# Altium footprint library Developement_Kit.PcbLib: 3 footprints
Each footprint in its own frame and in the unit in brackets; x right, y up, seen from the top. Pads: shape width x height; smd on the part's side, far side on the other; paste and mask are expansions set on the pad; w line width, h text height; cw(c..) or ccw(c..) is an arc to the next point about the centre after c.
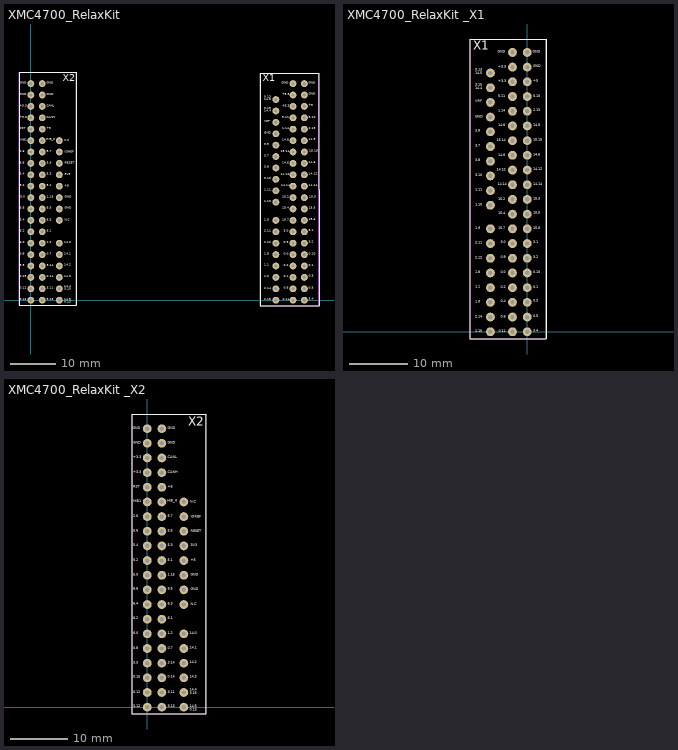
[diagram p0: the footprints below, top view; thin cyan lines are the x and y axes]

## XMC4700_RelaxKit [mil]
pads (112):
  round 60 hole 30: AA_1(250,500) AA_2(250,400) AA_3(250,300) AA_4(250,200) AA_5(250,100) AA_6(250,0) AD8_1(2150,0) AD8_2(2150,100) AD8_3(2150,200) AD8_4(2150,300) AD8_5(2150,400) AD8_6(2150,500) AD8_7(2150,600) AD8_8(2150,700) AD10_1(2150,860) AD10_2(2150,960) AD10_3(2150,1060) AD10_4(2150,1160) AD10_5(2150,1260) AD10_6(2150,1360) AD10_7(2150,1460) AD10_8(2150,1560) AD10_9(2150,1660) AD10_10(2150,1760) AP_1(250,1400) AP_2(250,1300) AP_3(250,1200) AP_4(250,1100) AP_5(250,1000) AP_6(250,900) AP_7(250,800) AP_8(250,700) X1_1(2400,0) X1_2(2300,0) X1_3(2400,100) X1_4(2300,100) X1_5(2400,200) X1_6(2300,200) X1_7(2400,300) X1_8(2300,300) X1_9(2400,400) X1_10(2300,400) X1_11(2400,500) X1_12(2300,500) X1_13(2400,600) X1_14(2300,600) X1_15(2400,700) X1_16(2300,700) X1_17(2400,800) X1_18(2300,800) X1_19(2400,900) X1_20(2300,900) X1_21(2400,1000) X1_22(2300,1000) X1_23(2400,1100) X1_24(2300,1100) X1_25(2400,1200) X1_26(2300,1200) X1_27(2400,1300) X1_28(2300,1300) X1_29(2400,1400) X1_30(2300,1400) X1_31(2400,1500) X1_32(2300,1500) X1_33(2400,1600) X1_34(2300,1600) X1_35(2400,1700) X1_36(2300,1700) X1_37(2400,1800) X1_38(2300,1800) X1_39(2400,1900) X1_40(2300,1900) X2_1(100,0) X2_2(0,0) X2_3(100,100) X2_4(0,100) X2_5(100,200) X2_6(0,200) X2_7(100,300) X2_8(0,300) X2_9(100,400) X2_10(0,400) X2_11(100,500) X2_12(0,500) X2_13(100,600) X2_14(0,600) X2_15(100,700) X2_16(0,700) X2_17(100,800) X2_18(0,800) X2_19(100,900) X2_20(0,900) X2_21(100,1000) X2_22(0,1000) X2_23(100,1100) X2_24(0,1100) X2_25(100,1200) X2_26(0,1200) X2_27(100,1300) X2_28(0,1300) X2_29(100,1400) X2_30(0,1400) X2_31(100,1500) X2_32(0,1500) X2_33(100,1600) X2_34(0,1600) X2_35(100,1700) X2_36(0,1700) X2_37(100,1800) X2_38(0,1800) X2_39(100,1900) X2_40(0,1900)
Top Overlay:
  lines w0.51: -104,-46 400,-46 400,2000 -104,2000 -104,-46 ; 2011.07,-49.15 2528.07,-49.15 2528.07,1990.85 2011.07,1990.85 2011.07,-49.15
  text "GND" at 2047.39,1450.27 h31.5
  text "0.13" at 2047.39,1767.28 h31.5
  text "3.10" at 2047.39,1050.28 h31.5
  text "1.8" at 2047.39,391.89 h31.5
  text "2.15" at 2047.36,-11.43 h31.5
  text "14.5" at 2047.39,1744.28 h31.5
  text "14.4" at 2047.39,1642.87 h31.5
  text "3.15" at 2047.39,1666.22 h31.5
  text "VRF" at 2047.42,1552.92 h31.5
  text "3.9" at 2047.39,1352.16 h31.5
  text "3.7" at 2047.39,1250.9 h31.5
  text "3.8" at 2047.39,1151.9 h31.5
  text "1.11" at 2047.39,952.11 h31.5
  text "1.10" at 2047.39,849.22 h31.5
  text "1.9" at 2047.39,690.2 h31.5
  text "2.11" at 2047.36,591.73 h31.5
  text "2.12" at 2047.36,489.54 h31.5
  text "1.1" at 2047.39,292.54 h31.5
  text "1.0" at 2047.39,191.26 h31.5
  text "2.14" at 2047.36,88.22 h31.5
  text "14.1" at 291,391 h31.5
  text "14.5" at 291,-8.65 h31.5
  text "14.0" at 291,489.35 h31.5
  text "14.2" at 291,292 h31.5
  text "14.3" at 291,192.35 h31.5
  text "3.15" at 291,82.35 h31.5
  text "14.4" at 291,105 h31.5
  text "0.13" at 291,-31.65 h31.5
  text "RESET" at 298,1186.35 h31.5
  text "GND" at 298,791.35 h31.5
  text "N.C" at 295,1386.35 h31.5
  text "IOREF" at 298,1285.35 h31.5
  text "3V3" at 298,1089.35 h31.5
  text "+5" at 298,987 h31.5
  text "GND" at 298,888.35 h31.5
  text "N.C" at 298,688 h31.5
  text "X1" at 2034.07,1919.85 h60
  text "X2" at 279,1921 h60
  text "0.11" at 2208.16,-8.66 h31.5
  text "0.6" at 2219.92,89.34 h31.5
  text "0.4" at 2220.01,194.34 h31.5
  text "0.2" at 2220.12,288.34 h31.5
  text "0.0" at 2219.98,391.4 h31.5
  text "0.9" at 2219.89,491.79 h31.5
  text "3.0" at 2220.01,593.63 h31.5
  text "15.7" at 2203.51,689.99 h31.5
  text "15.4" at 2203.51,793.34 h31.5
  text "15.2" at 2204.51,888.34 h31.5
  text "14.14" at 2198.4,989.97 h31.5
  text "14.12" at 2194.02,1089.26 h31.5
  text "14.6" at 2203.51,1188.34 h31.5
  text "15.14" at 2194.03,1288.2 h31.5
  text "14.8" at 2203.51,1390.34 h31.5
  text "1.14" at 2203.51,1489.99 h31.5
  text "5.11" at 2203.51,1587.34 h31.5
  text "+3.3" at 2203.51,1690.34 h31.5
  text "+3.3" at 2203.51,1790.34 h31.5
  text "GND" at 2200.51,1889.34 h31.5
  text "CANH" at 140,1589.35 h31.5
  text "5.5" at 140,1188.35 h31.5
  text "6.5" at 140,793.35 h31.5
  text "0.7" at 140,389.35 h31.5
  text "3.13" at 140,-8.65 h31.5
  text "GND" at 140,1888.35 h31.5
  text "GND" at 140,1790.35 h31.5
  text "CANL" at 140,1690.35 h31.5
  text "+5" at 140,1490.35 h31.5
  text "HIB_0" at 137,1393.59 h31.5
  text "5.7" at 140,1287.35 h31.5
  text "5.3" at 140,1091.35 h31.5
  text "5.1" at 140,989 h31.5
  text "1.15" at 140,890.35 h31.5
  text "6.3" at 140,690 h31.5
  text "6.1" at 140,592 h31.5
  text "1.2" at 140,491 h31.5
  text "3.14" at 140,288.35 h31.5
  text "0.14" at 140,194.35 h31.5
  text "3.11" at 140,89.35 h31.5
  text "3.12" at -96,-8.65 h31.5
  text "0.12" at -96,89.35 h31.5
  text "0.15" at -96,194.35 h31.5
  text "3.3" at -96,288.35 h31.5
  text "0.8" at -96,389.35 h31.5
  text "6.0" at -96,491.35 h31.5
  text "6.2" at -96,592 h31.5
  text "6.4" at -96,690 h31.5
  text "6.6" at -96,793.35 h31.5
  text "5.0" at -95,888.35 h31.5
  text "5.2" at -96,989 h31.5
  text "5.4" at -96,1091.35 h31.5
  text "5.6" at -96,1188.35 h31.5
  text "2.6" at -96.03,1287.35 h31.5
  text "HIB1" at -96,1390 h31.5
  text "RST" at -96,1490.35 h31.5
  text "+3.3" at -96,1587.35 h31.5
  text "+3.3" at -96,1690.35 h31.5
  text "GND" at -96,1790.35 h31.5
  text "GND" at -99,1889.35 h31.5
  text "15.15" at 2442,1292.35 h31.5
  text "0.5" at 2440,91.35 h31.5
  text "0.3" at 2440,196.35 h31.5
  text "0.1" at 2440,290.35 h31.5
  text "3.2" at 2440,493.35 h31.5
  text "3.1" at 2440,594 h31.5
  text "+5" at 2440,1692.35 h31.5
  text "3.4" at 2440,-6.65 h31.5
  text "15.6" at 2440,692 h31.5
  text "15.3" at 2441,890.35 h31.5
  text "14.14" at 2440,990.65 h31.5
  text "14.12" at 2440,1093 h31.5
  text "14.9" at 2440,1392.35 h31.5
  text "2.13" at 2439.97,1492.35 h31.5
  text "GND" at 2440,1792.35 h31.5
  text "GND" at 2437,1891.35 h31.5
  text "0.10" at 2440,391.35 h31.5
  text "15.5" at 2440,795.35 h31.5
  text "14.6" at 2440,1190.35 h31.5
  text "5.10" at 2440,1589.35 h31.5
Bottom Overlay:
  text "14.5" at 2047.39,1744.28 h31.5
  text "0.13" at 2047.39,1767.28 h31.5
  text "14.4" at 2047.39,1642.87 h31.5
  text "3.15" at 2047.39,1666.22 h31.5
  text "VRF" at 2047.42,1552.92 h31.5
  text "GND" at 2047.39,1450.27 h31.5
  text "1.11" at 2047.39,952.11 h31.5
  text "1.10" at 2047.39,849.22 h31.5
  text "3.9" at 2047.39,1352.16 h31.5
  text "3.8" at 2047.39,1151.9 h31.5
  text "3.7" at 2047.39,1250.9 h31.5
  text "3.10" at 2047.39,1050.28 h31.5
  text "1.9" at 2047.39,690.2 h31.5
  text "2.11" at 2047.36,591.73 h31.5
  text "2.14" at 2047.36,88.22 h31.5
  text "2.15" at 2047.36,-11.43 h31.5
  text "2.12" at 2047.36,489.54 h31.5
  text "1.1" at 2047.39,292.54 h31.5
  text "1.8" at 2047.39,391.89 h31.5
  text "1.0" at 2047.39,191.26 h31.5
  text "3.15" at 291,82.35 h31.5
  text "14.4" at 291,105 h31.5
  text "0.13" at 291,-31.65 h31.5
  text "14.0" at 291,489.35 h31.5
  text "14.2" at 291,292 h31.5
  text "14.1" at 291,391 h31.5
  text "14.3" at 291,192.35 h31.5
  text "14.5" at 291,-8.65 h31.5
  text "RESET" at 298,1186.35 h31.5
  text "GND" at 298,791.35 h31.5
  text "N.C" at 295,1386.35 h31.5
  text "IOREF" at 298,1285.35 h31.5
  text "3V3" at 298,1089.35 h31.5
  text "+5" at 298,987 h31.5
  text "GND" at 298,888.35 h31.5
  text "N.C" at 298,688 h31.5
  text "15.6" at 2440,692 h31.5
  text "15.5" at 2440,795.35 h31.5
  text "15.3" at 2441,890.35 h31.5
  text "14.12" at 2440,1093 h31.5
  text "2.13" at 2439.97,1492.35 h31.5
  text "15.15" at 2442,1292.35 h31.5
  text "+5" at 2440,1692.35 h31.5
  text "14.14" at 2440,990.65 h31.5
  text "14.6" at 2440,1190.35 h31.5
  text "14.9" at 2440,1392.35 h31.5
  text "5.10" at 2440,1589.35 h31.5
  text "GND" at 2440,1792.35 h31.5
  text "GND" at 2437,1891.35 h31.5
  text "3.1" at 2440,594 h31.5
  text "3.2" at 2440,493.35 h31.5
  text "0.10" at 2440,391.35 h31.5
  text "0.1" at 2440,290.35 h31.5
  text "0.5" at 2440,91.35 h31.5
  text "0.3" at 2440,196.35 h31.5
  text "3.4" at 2440,-6.65 h31.5
  text "6.3" at 140.24,689.85 h31.5
  text "6.5" at 140.24,793.2 h31.5
  text "1.15" at 140,890.35 h31.5
  text "5.3" at 140.24,1091.2 h31.5
  text "+5" at 140.24,1490.2 h31.5
  text "5.7" at 140.24,1287.2 h31.5
  text "CANL" at 140.24,1690.2 h31.5
  text "5.1" at 140.24,988.85 h31.5
  text "5.5" at 140.24,1188.2 h31.5
  text "HIB_0" at 137.24,1393.44 h31.5
  text "CANH" at 140.24,1589.2 h31.5
  text "GND" at 140.24,1790.2 h31.5
  text "GND" at 140.24,1888.2 h31.5
  text "6.1" at 140.24,591.85 h31.5
  text "1.2" at 140.24,490.85 h31.5
  text "0.7" at 140.24,389.2 h31.5
  text "3.14" at 140.24,288.2 h31.5
  text "3.11" at 140.24,89.2 h31.5
  text "0.14" at 140.24,194.2 h31.5
  text "3.13" at 140.24,-8.8 h31.5
  text "X2" at 279,1921 h60
  text "6.4" at -96,690 h31.5
  text "6.6" at -96,793.35 h31.5
  text "5.0" at -95,888.35 h31.5
  text "5.4" at -96,1091.35 h31.5
  text "RST" at -96,1490.35 h31.5
  text "2.6" at -96.03,1287.35 h31.5
  text "+3.3" at -96,1690.35 h31.5
  text "5.2" at -96,989 h31.5
  text "5.6" at -96,1188.35 h31.5
  text "HIB1" at -96,1390 h31.5
  text "+3.3" at -96,1587.35 h31.5
  text "GND" at -96,1790.35 h31.5
  text "GND" at -99,1889.35 h31.5
  text "6.2" at -96,592 h31.5
  text "6.0" at -96,491.35 h31.5
  text "0.8" at -96,389.35 h31.5
  text "3.3" at -96,288.35 h31.5
  text "0.12" at -96,89.35 h31.5
  text "0.15" at -96,194.35 h31.5
  text "3.12" at -96,-8.65 h31.5
  text "15.7" at 2203.51,689.99 h31.5
  text "15.4" at 2203.51,793.34 h31.5
  text "15.2" at 2204.51,888.34 h31.5
  text "14.12" at 2194.02,1089.26 h31.5
  text "1.14" at 2203.51,1489.99 h31.5
  text "15.14" at 2194.03,1288.2 h31.5
  text "+3.3" at 2203.51,1690.34 h31.5
  text "14.14" at 2198.18,989.97 h31.5
  text "14.6" at 2203.51,1188.34 h31.5
  text "14.8" at 2203.51,1390.34 h31.5
  text "5.11" at 2203.51,1587.34 h31.5
  text "+3.3" at 2203.51,1790.34 h31.5
  text "GND" at 2200.51,1889.34 h31.5
  text "3.0" at 2220.01,593.63 h31.5
  text "0.9" at 2219.89,491.79 h31.5
  text "0.0" at 2219.98,391.4 h31.5
  text "0.2" at 2220.12,288.34 h31.5
  text "0.6" at 2219.92,89.34 h31.5
  text "0.4" at 2220.01,194.34 h31.5
  text "0.11" at 2208.16,-8.66 h31.5
  text "X1" at 2034.07,1919.85 h60
Mechanical 1:
  lines w0.51: 2011.7,-49.29 2527.19,-49.29 2527.96,-48.52 2527.96,1990.91 2527.58,1991.28 2011.69,1991.28 2011.69,-49.28 ; 2011.69,-49.28 2011.7,-49.29 ; -103.86,-46.13 399.02,-46.13 399.81,-46.92 399.81,1997.33 401.14,1998.66 -103.58,1998.66 -103.58,-45.85 -103.86,-46.13
3D body "c-2-87224-0-l-3d.stp": height 416.43, standoff -116.57, extent -45.59,-40.67 46.41,1943.33
3D body "c-2-87224-0-l-3d.stp": height 416.43, standoff -116.57, extent 48.92,-40.75 140.92,1943.25
3D body "c-2-87224-0-l-3d.stp": height 416.43, standoff -116.57, extent 2254.07,-30.63 2346.07,1953.37
3D body "c-2-87224-0-l-3d.stp": height 416.43, standoff -116.57, extent 2353.06,-30.98 2445.06,1953.02

## XMC4700_RelaxKit _X1 [mil]
pads (58):
  round 60 hole 30: AD8_1(-250,0) AD8_2(-250,100) AD8_3(-250,200) AD8_4(-250,300) AD8_5(-250,400) AD8_6(-250,500) AD8_7(-250,600) AD8_8(-250,700) AD10_1(-250,860) AD10_2(-250,960) AD10_3(-250,1060) AD10_4(-250,1160) AD10_5(-250,1260) AD10_6(-250,1360) AD10_7(-250,1460) AD10_8(-250,1560) AD10_9(-250,1660) AD10_10(-250,1760) X1_1(0,0) X1_2(-100,0) X1_3(0,100) X1_4(-100,100) X1_5(0,200) X1_6(-100,200) X1_7(0,300) X1_8(-100,300) X1_9(0,400) X1_10(-100,400) X1_11(0,500) X1_12(-100,500) X1_13(0,600) X1_14(-100,600) X1_15(0,700) X1_16(-100,700) X1_17(0,800) X1_18(-100,800) X1_19(0,900) X1_20(-100,900) X1_21(0,1000) X1_22(-100,1000) X1_23(0,1100) X1_24(-100,1100) X1_25(0,1200) X1_26(-100,1200) X1_27(0,1300) X1_28(-100,1300) X1_29(0,1400) X1_30(-100,1400) X1_31(0,1500) X1_32(-100,1500) X1_33(0,1600) X1_34(-100,1600) X1_35(0,1700) X1_36(-100,1700) X1_37(0,1800) X1_38(-100,1800) X1_39(0,1900) X1_40(-100,1900)
Top Overlay:
  lines w0.51: -388.93,-49.15 -388.93,1990.85 128.07,1990.85 128.07,-49.15 -388.93,-49.15
  text "5.10" at 40,1589.35 h31.5
  text "14.6" at 40,1190.35 h31.5
  text "15.5" at 40,795.35 h31.5
  text "0.10" at 40,391.35 h31.5
  text "GND" at 37,1891.35 h31.5
  text "GND" at 40,1792.35 h31.5
  text "2.13" at 39.97,1492.35 h31.5
  text "14.9" at 40,1392.35 h31.5
  text "14.12" at 40,1093 h31.5
  text "14.14" at 40,990.65 h31.5
  text "15.3" at 41,890.35 h31.5
  text "15.6" at 40,692 h31.5
  text "3.4" at 40,-6.65 h31.5
  text "+5" at 40,1692.35 h31.5
  text "3.1" at 40,594 h31.5
  text "3.2" at 40,493.35 h31.5
  text "0.1" at 40,290.35 h31.5
  text "0.3" at 40,196.35 h31.5
  text "0.5" at 40,91.35 h31.5
  text "15.15" at 42,1292.35 h31.5
  text "GND" at -199.49,1889.34 h31.5
  text "+3.3" at -196.49,1790.34 h31.5
  text "+3.3" at -196.49,1690.34 h31.5
  text "5.11" at -196.49,1587.34 h31.5
  text "1.14" at -196.49,1489.99 h31.5
  text "14.8" at -196.49,1390.34 h31.5
  text "15.14" at -205.97,1288.2 h31.5
  text "14.6" at -196.49,1188.34 h31.5
  text "14.12" at -205.98,1089.26 h31.5
  text "14.14" at -201.6,989.97 h31.5
  text "15.2" at -195.49,888.34 h31.5
  text "15.4" at -196.49,793.34 h31.5
  text "15.7" at -196.49,689.99 h31.5
  text "3.0" at -179.99,593.63 h31.5
  text "0.9" at -180.11,491.79 h31.5
  text "0.0" at -180.02,391.4 h31.5
  text "0.2" at -179.88,288.34 h31.5
  text "0.4" at -179.99,194.34 h31.5
  text "0.6" at -180.08,89.34 h31.5
  text "0.11" at -191.84,-8.66 h31.5
  text "X1" at -365.93,1919.85 h60
  text "2.14" at -352.64,88.22 h31.5
  text "1.0" at -352.61,191.26 h31.5
  text "1.1" at -352.61,292.54 h31.5
  text "2.12" at -352.64,489.54 h31.5
  text "2.11" at -352.64,591.73 h31.5
  text "1.9" at -352.61,690.2 h31.5
  text "1.10" at -352.61,849.22 h31.5
  text "1.11" at -352.61,952.11 h31.5
  text "3.8" at -352.61,1151.9 h31.5
  text "3.7" at -352.61,1250.9 h31.5
  text "3.9" at -352.61,1352.16 h31.5
  text "VRF" at -352.58,1552.92 h31.5
  text "3.15" at -352.61,1666.22 h31.5
  text "14.4" at -352.61,1642.87 h31.5
  text "14.5" at -352.61,1744.28 h31.5
  text "2.15" at -352.64,-11.43 h31.5
  text "1.8" at -352.61,391.89 h31.5
  text "3.10" at -352.61,1050.28 h31.5
  text "0.13" at -352.61,1767.28 h31.5
  text "GND" at -352.61,1450.27 h31.5
Bottom Overlay:
  text "X1" at -365.93,1919.85 h60
  text "0.11" at -191.84,-8.66 h31.5
  text "0.4" at -179.99,194.34 h31.5
  text "0.6" at -180.08,89.34 h31.5
  text "0.2" at -179.88,288.34 h31.5
  text "0.0" at -180.02,391.4 h31.5
  text "0.9" at -180.11,491.79 h31.5
  text "3.0" at -179.99,593.63 h31.5
  text "GND" at -199.49,1889.34 h31.5
  text "+3.3" at -196.49,1790.34 h31.5
  text "5.11" at -196.49,1587.34 h31.5
  text "14.8" at -196.49,1390.34 h31.5
  text "14.6" at -196.49,1188.34 h31.5
  text "14.14" at -201.82,989.97 h31.5
  text "+3.3" at -196.49,1690.34 h31.5
  text "15.14" at -205.97,1288.2 h31.5
  text "1.14" at -196.49,1489.99 h31.5
  text "14.12" at -205.98,1089.26 h31.5
  text "15.2" at -195.49,888.34 h31.5
  text "15.4" at -196.49,793.34 h31.5
  text "15.7" at -196.49,689.99 h31.5
  text "3.4" at 40,-6.65 h31.5
  text "0.3" at 40,196.35 h31.5
  text "0.5" at 40,91.35 h31.5
  text "0.1" at 40,290.35 h31.5
  text "0.10" at 40,391.35 h31.5
  text "3.2" at 40,493.35 h31.5
  text "3.1" at 40,594 h31.5
  text "GND" at 37,1891.35 h31.5
  text "GND" at 40,1792.35 h31.5
  text "5.10" at 40,1589.35 h31.5
  text "14.9" at 40,1392.35 h31.5
  text "14.6" at 40,1190.35 h31.5
  text "14.14" at 40,990.65 h31.5
  text "+5" at 40,1692.35 h31.5
  text "15.15" at 42,1292.35 h31.5
  text "2.13" at 39.97,1492.35 h31.5
  text "14.12" at 40,1093 h31.5
  text "15.3" at 41,890.35 h31.5
  text "15.5" at 40,795.35 h31.5
  text "15.6" at 40,692 h31.5
  text "1.0" at -352.61,191.26 h31.5
  text "1.8" at -352.61,391.89 h31.5
  text "1.1" at -352.61,292.54 h31.5
  text "2.12" at -352.64,489.54 h31.5
  text "2.15" at -352.64,-11.43 h31.5
  text "2.14" at -352.64,88.22 h31.5
  text "2.11" at -352.64,591.73 h31.5
  text "1.9" at -352.61,690.2 h31.5
  text "3.10" at -352.61,1050.28 h31.5
  text "3.7" at -352.61,1250.9 h31.5
  text "3.8" at -352.61,1151.9 h31.5
  text "3.9" at -352.61,1352.16 h31.5
  text "1.10" at -352.61,849.22 h31.5
  text "1.11" at -352.61,952.11 h31.5
  text "GND" at -352.61,1450.27 h31.5
  text "VRF" at -352.58,1552.92 h31.5
  text "3.15" at -352.61,1666.22 h31.5
  text "14.4" at -352.61,1642.87 h31.5
  text "0.13" at -352.61,1767.28 h31.5
  text "14.5" at -352.61,1744.28 h31.5
Mechanical 1:
  lines w0.51: -388.31,-49.28 -388.31,1991.28 127.58,1991.28 127.96,1990.91 127.96,-48.52 127.19,-49.29 -388.3,-49.29 ; -388.31,-49.28 -388.3,-49.29
3D body "c-1-826629-0-r-3d.stp": height 362.2, standoff -137.8, extent -301.52,811.28 -203.09,1811.28
3D body "c-2-87224-0-l-3d.stp": height 416.43, standoff -116.57, extent -46.94,-30.98 45.06,1953.02
3D body "c-2-87224-0-l-3d.stp": height 416.43, standoff -116.57, extent -145.93,-30.63 -53.93,1953.37
3D body "c-826629-8-r-3d.stp": height 362.2, standoff -137.8, extent -300.77,-47.7 -202.35,752.3

## XMC4700_RelaxKit _X2 [mil]
pads (54):
  round 60 hole 30: AA_1(250,500) AA_2(250,400) AA_3(250,300) AA_4(250,200) AA_5(250,100) AA_6(250,0) AP_1(250,1400) AP_2(250,1300) AP_3(250,1200) AP_4(250,1100) AP_5(250,1000) AP_6(250,900) AP_7(250,800) AP_8(250,700) X2_1(100,0) X2_2(0,0) X2_3(100,100) X2_4(0,100) X2_5(100,200) X2_6(0,200) X2_7(100,300) X2_8(0,300) X2_9(100,400) X2_10(0,400) X2_11(100,500) X2_12(0,500) X2_13(100,600) X2_14(0,600) X2_15(100,700) X2_16(0,700) X2_17(100,800) X2_18(0,800) X2_19(100,900) X2_20(0,900) X2_21(100,1000) X2_22(0,1000) X2_23(100,1100) X2_24(0,1100) X2_25(100,1200) X2_26(0,1200) X2_27(100,1300) X2_28(0,1300) X2_29(100,1400) X2_30(0,1400) X2_31(100,1500) X2_32(0,1500) X2_33(100,1600) X2_34(0,1600) X2_35(100,1700) X2_36(0,1700) X2_37(100,1800) X2_38(0,1800) X2_39(100,1900) X2_40(0,1900)
Top Overlay:
  lines w0.51: -104,-46 -104,2000 400,2000 400,-46 -104,-46
  text "GND" at -99,1889.35 h31.5
  text "GND" at -96,1790.35 h31.5
  text "+3.3" at -96,1690.35 h31.5
  text "+3.3" at -96,1587.35 h31.5
  text "RST" at -96,1490.35 h31.5
  text "HIB1" at -96,1390 h31.5
  text "2.6" at -96.03,1287.35 h31.5
  text "5.6" at -96,1188.35 h31.5
  text "5.4" at -96,1091.35 h31.5
  text "5.2" at -96,989 h31.5
  text "5.0" at -95,888.35 h31.5
  text "6.6" at -96,793.35 h31.5
  text "6.4" at -96,690 h31.5
  text "6.2" at -96,592 h31.5
  text "6.0" at -96,491.35 h31.5
  text "0.8" at -96,389.35 h31.5
  text "3.3" at -96,288.35 h31.5
  text "0.15" at -96,194.35 h31.5
  text "0.12" at -96,89.35 h31.5
  text "3.12" at -96,-8.65 h31.5
  text "3.11" at 140,89.35 h31.5
  text "0.14" at 140,194.35 h31.5
  text "3.14" at 140,288.35 h31.5
  text "1.2" at 140,491 h31.5
  text "6.1" at 140,592 h31.5
  text "6.3" at 140,690 h31.5
  text "1.15" at 140,890.35 h31.5
  text "5.1" at 140,989 h31.5
  text "5.3" at 140,1091.35 h31.5
  text "5.7" at 140,1287.35 h31.5
  text "HIB_0" at 137,1393.59 h31.5
  text "+5" at 140,1490.35 h31.5
  text "CANL" at 140,1690.35 h31.5
  text "GND" at 140,1790.35 h31.5
  text "GND" at 140,1888.35 h31.5
  text "3.13" at 140,-8.65 h31.5
  text "0.7" at 140,389.35 h31.5
  text "6.5" at 140,793.35 h31.5
  text "5.5" at 140,1188.35 h31.5
  text "CANH" at 140,1589.35 h31.5
  text "X2" at 279,1921 h60
  text "N.C" at 298,688 h31.5
  text "GND" at 298,888.35 h31.5
  text "+5" at 298,987 h31.5
  text "3V3" at 298,1089.35 h31.5
  text "IOREF" at 298,1285.35 h31.5
  text "N.C" at 295,1386.35 h31.5
  text "GND" at 298,791.35 h31.5
  text "RESET" at 298,1186.35 h31.5
  text "0.13" at 291,-31.65 h31.5
  text "14.4" at 291,105 h31.5
  text "3.15" at 291,82.35 h31.5
  text "14.3" at 291,192.35 h31.5
  text "14.2" at 291,292 h31.5
  text "14.0" at 291,489.35 h31.5
  text "14.5" at 291,-8.65 h31.5
  text "14.1" at 291,391 h31.5
Bottom Overlay:
  text "3.12" at -96,-8.65 h31.5
  text "0.15" at -96,194.35 h31.5
  text "0.12" at -96,89.35 h31.5
  text "3.3" at -96,288.35 h31.5
  text "0.8" at -96,389.35 h31.5
  text "6.0" at -96,491.35 h31.5
  text "6.2" at -96,592 h31.5
  text "GND" at -99,1889.35 h31.5
  text "GND" at -96,1790.35 h31.5
  text "+3.3" at -96,1587.35 h31.5
  text "HIB1" at -96,1390 h31.5
  text "5.6" at -96,1188.35 h31.5
  text "5.2" at -96,989 h31.5
  text "+3.3" at -96,1690.35 h31.5
  text "2.6" at -96.03,1287.35 h31.5
  text "RST" at -96,1490.35 h31.5
  text "5.4" at -96,1091.35 h31.5
  text "5.0" at -95,888.35 h31.5
  text "6.6" at -96,793.35 h31.5
  text "6.4" at -96,690 h31.5
  text "X2" at 279,1921 h60
  text "3.13" at 140.24,-8.8 h31.5
  text "0.14" at 140.24,194.2 h31.5
  text "3.11" at 140.24,89.2 h31.5
  text "3.14" at 140.24,288.2 h31.5
  text "0.7" at 140.24,389.2 h31.5
  text "1.2" at 140.24,490.85 h31.5
  text "6.1" at 140.24,591.85 h31.5
  text "GND" at 140.24,1888.2 h31.5
  text "GND" at 140.24,1790.2 h31.5
  text "CANH" at 140.24,1589.2 h31.5
  text "HIB_0" at 137.24,1393.44 h31.5
  text "5.5" at 140.24,1188.2 h31.5
  text "5.1" at 140.24,988.85 h31.5
  text "CANL" at 140.24,1690.2 h31.5
  text "5.7" at 140.24,1287.2 h31.5
  text "+5" at 140.24,1490.2 h31.5
  text "5.3" at 140.24,1091.2 h31.5
  text "1.15" at 140,890.35 h31.5
  text "6.5" at 140.24,793.2 h31.5
  text "6.3" at 140.24,689.85 h31.5
  text "N.C" at 298,688 h31.5
  text "GND" at 298,888.35 h31.5
  text "+5" at 298,987 h31.5
  text "3V3" at 298,1089.35 h31.5
  text "IOREF" at 298,1285.35 h31.5
  text "N.C" at 295,1386.35 h31.5
  text "GND" at 298,791.35 h31.5
  text "RESET" at 298,1186.35 h31.5
  text "14.5" at 291,-8.65 h31.5
  text "14.3" at 291,192.35 h31.5
  text "14.1" at 291,391 h31.5
  text "14.2" at 291,292 h31.5
  text "14.0" at 291,489.35 h31.5
  text "0.13" at 291,-31.65 h31.5
  text "14.4" at 291,105 h31.5
  text "3.15" at 291,82.35 h31.5
Mechanical 1:
  lines w0.51: -103.86,-46.13 -103.58,-45.85 -103.58,1998.66 401.14,1998.66 399.81,1997.33 399.81,-46.92 399.02,-46.13 -103.86,-46.13
3D body "c-87224-6-l-3d.stp": height 396.74, standoff -136.26, extent 205.58,-34.96 297.58,549.04
3D body "c-2-87224-0-l-3d.stp": height 416.43, standoff -116.57, extent 48.92,-40.75 140.92,1943.25
3D body "c-2-87224-0-l-3d.stp": height 416.43, standoff -116.57, extent -45.59,-40.67 46.41,1943.33
3D body "c-826629-8-r-3d.stp": height 362.2, standoff -137.8, extent 202.02,643.05 300.45,1443.05